# Altium schematic symbol library SmallJu_Lib.SchLib: 21 symbols
Pins are listed as number, name and electrical type; pins without a type are passive.

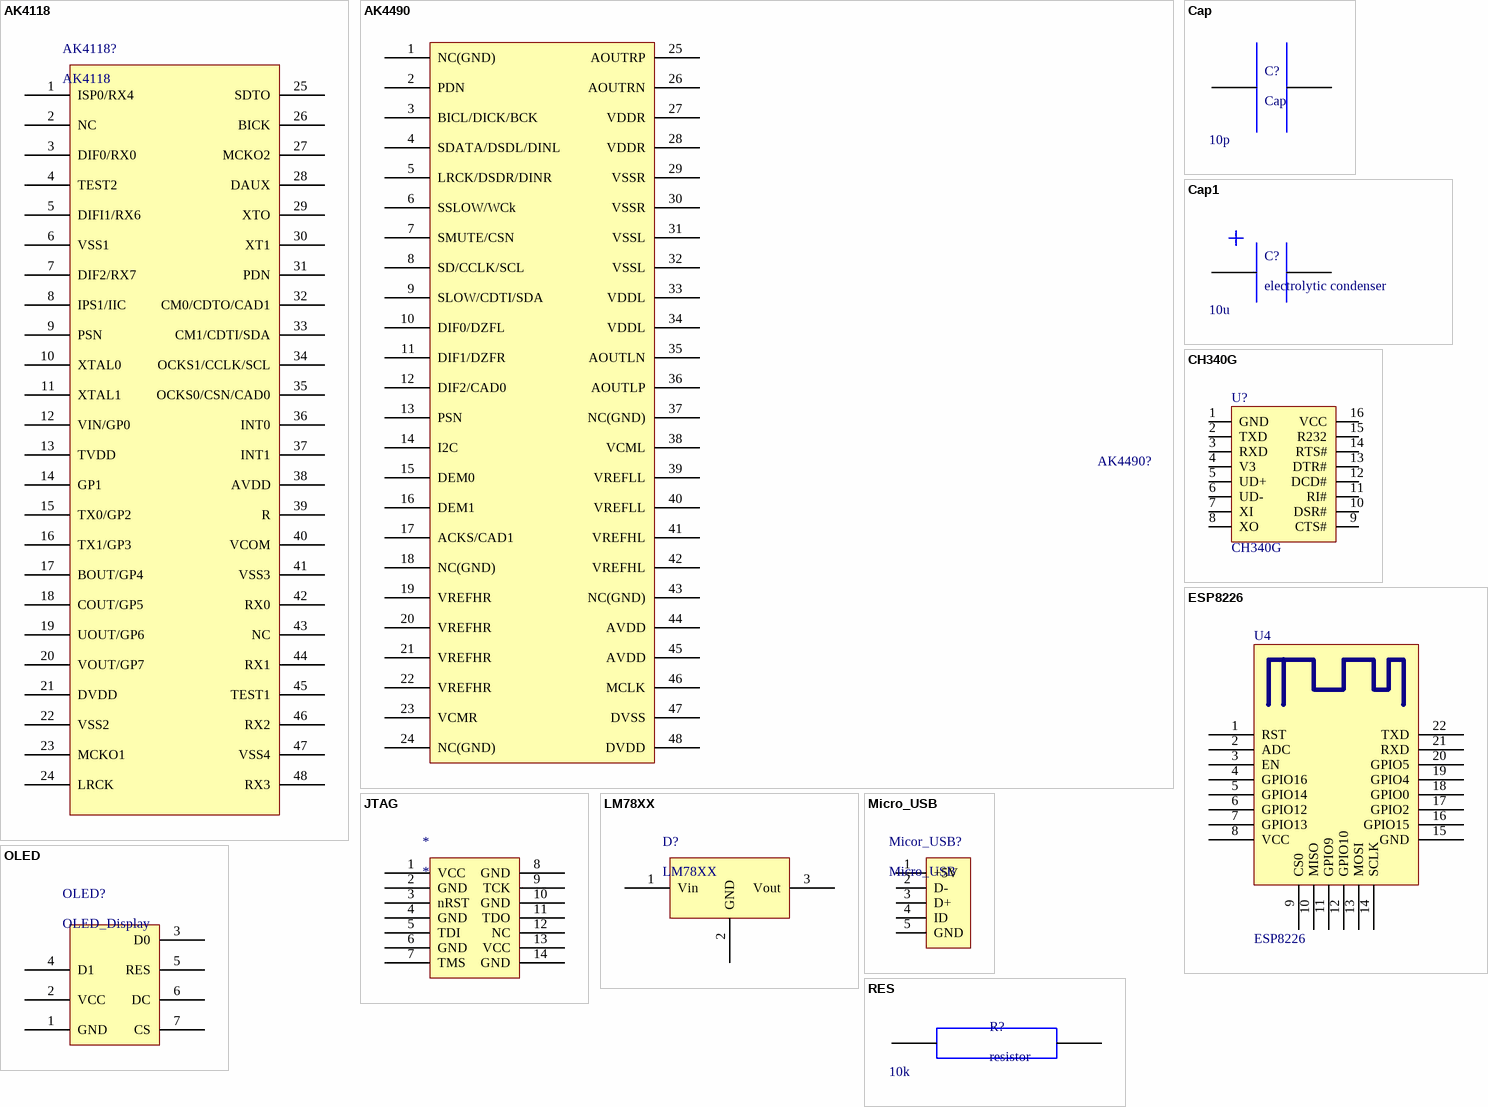
[diagram p0: symbols AK4118 to RES]

## AK4118
designator AK4118?
AK4118;High feature 192kHz 24bit Digital audio I/F Translater
footprint LQFP48
pins: 1 ISP0/RX4, 2 NC, 3 DIF0/RX0, 4 TEST2, 5 DIFI1/RX6, 6 VSS1, 7 DIF2/RX7, 8 IPS1/IIC, 9 PSN, 10 XTAL0, 11 XTAL1, 12 VIN/GP0, 13 TVDD, 14 GP1, 15 TX0/GP2, 16 TX1/GP3, 17 BOUT/GP4, 18 COUT/GP5, 19 UOUT/GP6, 20 VOUT/GP7, 21 DVDD, 22 VSS2, 23 MCKO1, 24 LRCK, 25 SDTO, 26 BICK, 27 MCKO2, 28 DAUX, 29 XTO, 30 XT1, 31 PDN, 32 CM0/CDTO/CAD1, 33 CM1/CDTI/SDA, 34 OCKS1/CCLK/SCL, 35 OCKS0/CSN/CAD0, 36 INT0, 37 INT1, 38 AVDD, 39 R, 40 VCOM, 41 VSS3, 42 RX0, 43 NC, 44 RX1, 45 TEST1, 46 RX2, 47 VSS4, 48 RX3

## AK4490
designator AK4490?  (value not drawn)
AK4490;Premium 32-bit 2ch DAC;
footprint LQFP48
pins: 1 NC(GND), 2 PDN, 3 BICL/DICK/BCK, 4 SDATA/DSDL/DINL, 5 LRCK/DSDR/DINR, 6 SSLOW/WCk, 7 SMUTE/CSN, 8 SD/CCLK/SCL, 9 SLOW/CDTI/SDA, 10 DIF0/DZFL, 11 DIF1/DZFR, 12 DIF2/CAD0, 13 PSN, 14 I2C, 15 DEM0, 16 DEM1, 17 ACKS/CAD1, 18 NC(GND), 19 VREFHR, 20 VREFHR, 21 VREFHR, 22 VREFHR, 23 VCMR, 24 NC(GND), 25 AOUTRP, 26 AOUTRN, 27 VDDR, 28 VDDR, 29 VSSR, 30 VSSR, 31 VSSL, 32 VSSL, 33 VDDL, 34 VDDL, 35 AOUTLN, 36 AOUTLP, 37 NC(GND), 38 VCML, 39 VREFLL, 40 VREFLL, 41 VREFHL, 42 VREFHL, 43 NC(GND), 44 AVDD, 45 AVDD, 46 MCLK, 47 DVSS, 48 DVDD

## Cap
designator C?  value 10p
footprint 0805_cap (0805;STM;cap;)
footprint DIP_CAP (DIP;Cap;Small;non_extremity)
pins: 2 DVDD, 49

## Cap1
designator C?, comment electrolytic condenser  value 10u
electrolytic condenser;
footprint E_CAP_LARGE (electrolytic condenser;10*12.5)
footprint E_CAP_SMALL (electrolytic condenser;8*12;(220uF))
footprint E_CAP_STM_LARGE (electrolytic condenser;STM;⊕8~10)
footprint E_CAP_STM_SMALL (electrolytic condenser;STM;⊕4~6.6)
pins: 1, 2
text: +

## CH340G
designator U?
CH340
footprint SOP-16
pins: 1 GND, 2 TXD, 3 RXD, 4 V3, 5 UD+, 6 UD-, 7 XI, 8 XO, 9 CTS#, 10 DSR#, 11 RI#, 12 DCD#, 13 DTR#, 14 RTS#, 15 R232, 16 VCC

## ESP8226
designator U4
footprint ESP8266 (WIFI)
pins: 1 RST, 2 ADC, 3 EN, 4 GPIO16, 5 GPIO14, 6 GPIO12, 7 GPIO13, 8 VCC, 9 CS0, 10 MISO, 11 GPIO9, 12 GPIO10, 13 MOSI, 14 SCLK, 15 GND, 16 GPIO15, 17 GPIO2, 18 GPIO0, 19 GPIO4, 20 GPIO5, 21 RXD, 22 TXD

## JTAG
designator *
pins: 1 VCC, 2 GND, 3 nRST, 4 GND, 5 TDI, 6 GND, 7 TMS, 8 GND, 9 TCK, 10 GND, 11 TDO, 12 NC, 13 VCC, 14 GND

## LM78XX
designator D?
LM78XX;
footprint TO-220 (LM78XX,LM79xx)
pins: 1 Vin, 2 GND, 3 Vout

## Micro_USB
designator Micor_USB?
Micro USB SType B with 5Pin
footprint Micro_USB_4_hole (Micro USB;Type B 4 Hole with extra guid hole)
footprint MICRO_USB_DIP (Micro USB;Type B;DIP;straight)
pins: 1 +5V, 2 D-, 3 D+, 4 ID, 5 GND

## OLED
designator OLED?, comment OLED_Display
oled display;contral by SPI from MCU;use 5 GPIO;0.96 inch;
footprint OLED
pins: 1 GND, 2 VCC, 3 D0, 4 D1, 5 RES, 6 DC, 7 CS

## RES
designator R?, comment resistor  resistamce: 10k
footprint RES_DIP (resistor;DIP)
footprint RES_SMT (resistor;STM;)
pins: 1, 2

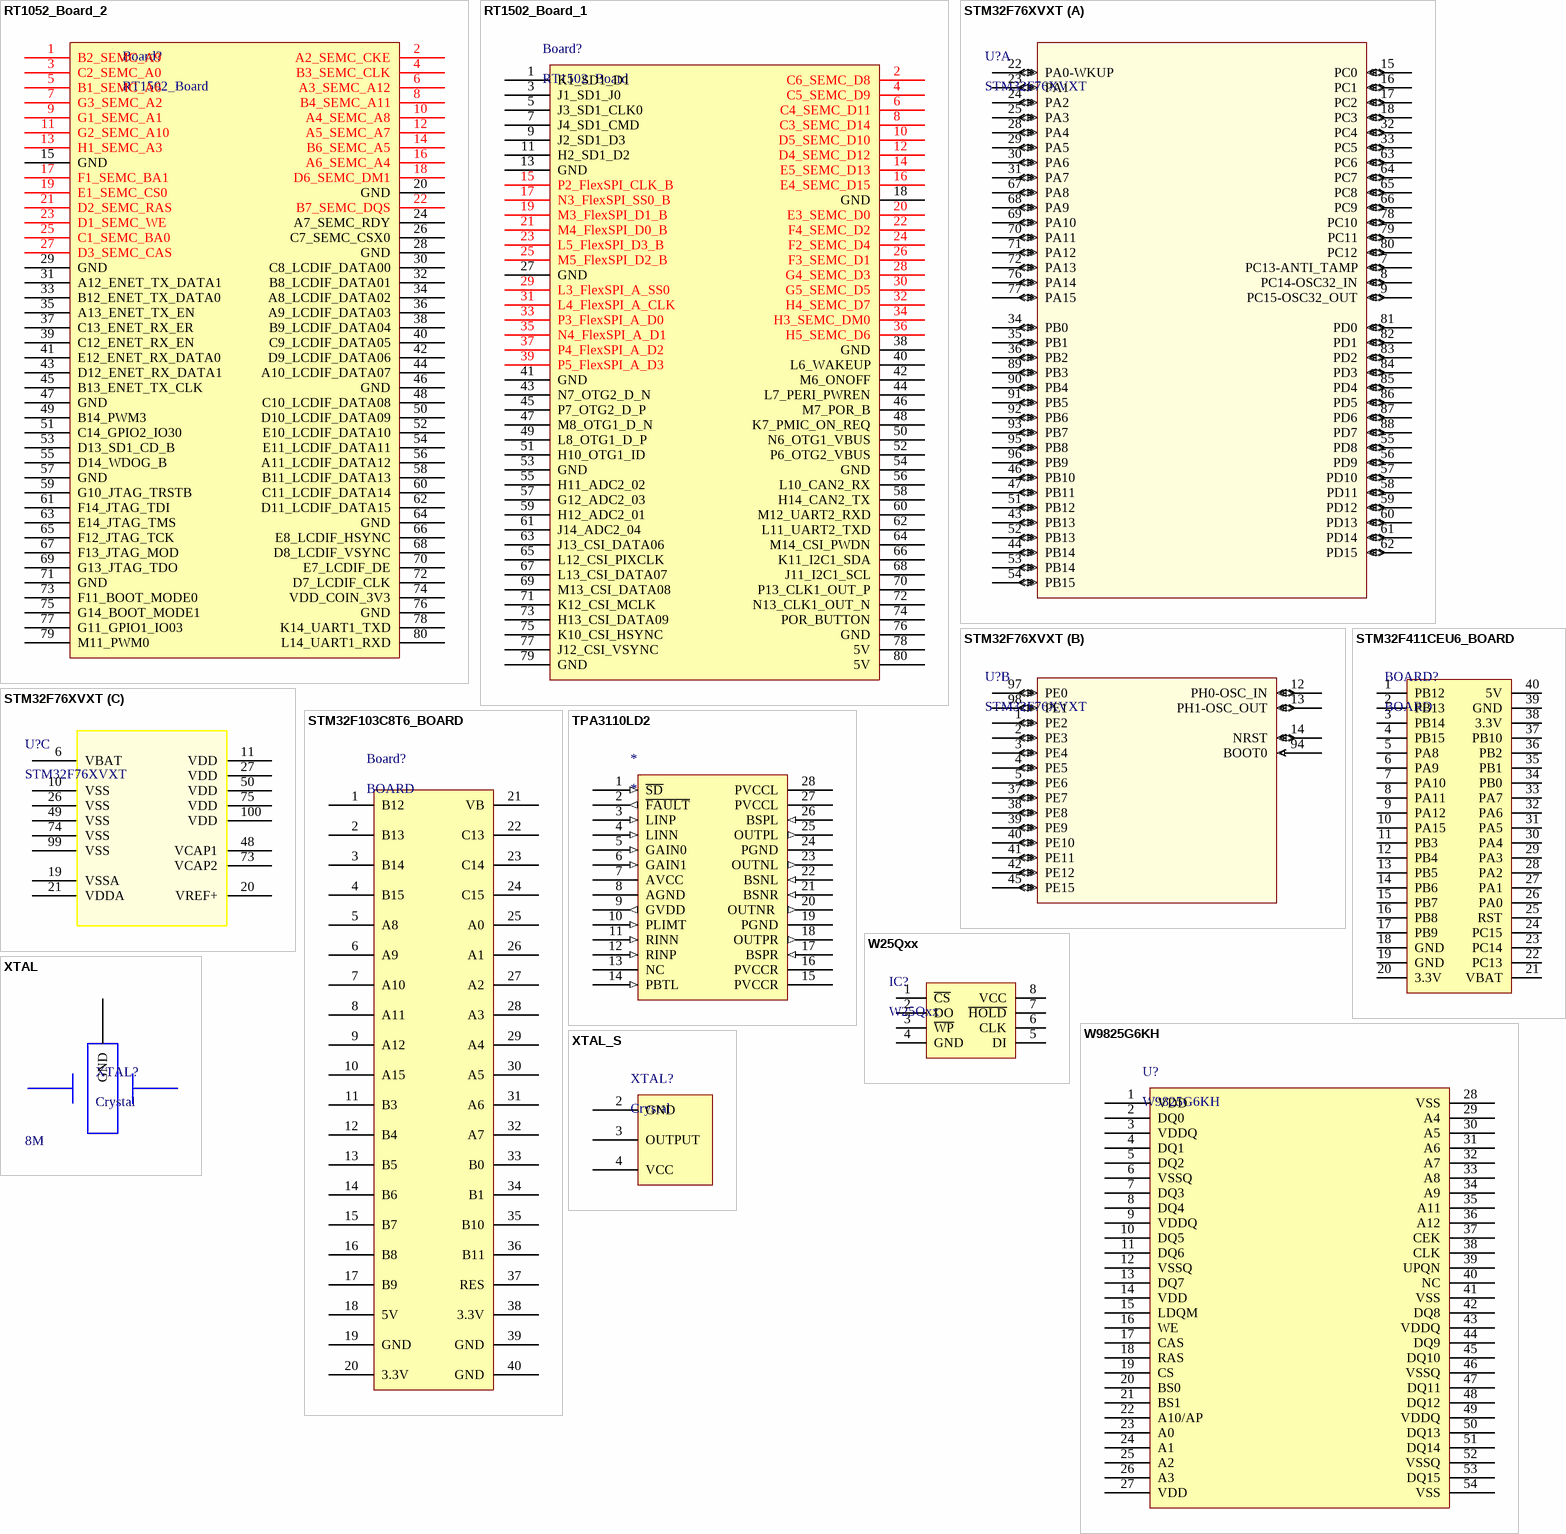
[diagram p1: symbols RT1052_Board_2 to XTAL_S]

## RT1052_Board_2
designator Board?, comment RT1502_Board
NXP i.MX RT1502 Board part 2
footprint CON80
pins: 1 B2_SEMC_A9, 2 A2_SEMC_CKE, 3 C2_SEMC_A0, 4 B3_SEMC_CLK, 5 B1_SEMC_A6, 6 A3_SEMC_A12, 7 G3_SEMC_A2, 8 B4_SEMC_A11, 9 G1_SEMC_A1, 10 A4_SEMC_A8, 11 G2_SEMC_A10, 12 A5_SEMC_A7, 13 H1_SEMC_A3, 14 B6_SEMC_A5, 15 GND, 16 A6_SEMC_A4, 17 F1_SEMC_BA1, 18 D6_SEMC_DM1, 19 E1_SEMC_CS0, 20 GND, 21 D2_SEMC_RAS, 22 B7_SEMC_DQS, 23 D1_SEMC_WE, 24 A7_SEMC_RDY, 25 C1_SEMC_BA0, 26 C7_SEMC_CSX0, 27 D3_SEMC_CAS, 28 GND, 29 GND, 30 C8_LCDIF_DATA00, 31 A12_ENET_TX_DATA1, 32 B8_LCDIF_DATA01, 33 B12_ENET_TX_DATA0, 34 A8_LCDIF_DATA02, 35 A13_ENET_TX_EN, 36 A9_LCDIF_DATA03, 37 C13_ENET_RX_ER, 38 B9_LCDIF_DATA04, 39 C12_ENET_RX_EN, 40 C9_LCDIF_DATA05, 41 E12_ENET_RX_DATA0, 42 D9_LCDIF_DATA06, 43 D12_ENET_RX_DATA1, 44 A10_LCDIF_DATA07, 45 B13_ENET_TX_CLK, 46 GND, 47 GND, 48 C10_LCDIF_DATA08, 49 B14_PWM3, 50 D10_LCDIF_DATA09, 51 C14_GPIO2_IO30, 52 E10_LCDIF_DATA10, 53 D13_SD1_CD_B, 54 E11_LCDIF_DATA11, 55 D14_WDOG_B, 56 A11_LCDIF_DATA12, 57 GND, 58 B11_LCDIF_DATA13, 59 G10_JTAG_TRSTB, 60 C11_LCDIF_DATA14, 61 F14_JTAG_TDI, 62 D11_LCDIF_DATA15, 63 E14_JTAG_TMS, 64 GND, 65 F12_JTAG_TCK, 66 E8_LCDIF_HSYNC, 67 F13_JTAG_MOD, 68 D8_LCDIF_VSYNC, 69 G13_JTAG_TDO, 70 E7_LCDIF_DE, 71 GND, 72 D7_LCDIF_CLK, 73 F11_BOOT_MODE0, 74 VDD_COIN_3V3, 75 G14_BOOT_MODE1, 76 GND, 77 G11_GPIO1_IO03, 78 K14_UART1_TXD, 79 M11_PWM0, 80 L14_UART1_RXD

## RT1502_Board_1
designator Board?, comment RT1502_Board
NXP i.MX RT1502 Board part 1
footprint CON80
pins: 1 K1_SD1_D1, 2 C6_SEMC_D8, 3 J1_SD1_J0, 4 C5_SEMC_D9, 5 J3_SD1_CLK0, 6 C4_SEMC_D11, 7 J4_SD1_CMD, 8 C3_SEMC_D14, 9 J2_SD1_D3, 10 D5_SEMC_D10, 11 H2_SD1_D2, 12 D4_SEMC_D12, 13 GND, 14 E5_SEMC_D13, 15 P2_FlexSPI_CLK_B, 16 E4_SEMC_D15, 17 N3_FlexSPI_SS0_B, 18 GND, 19 M3_FlexSPI_D1_B, 20 E3_SEMC_D0, 21 M4_FlexSPI_D0_B, 22 F4_SEMC_D2, 23 L5_FlexSPI_D3_B, 24 F2_SEMC_D4, 25 M5_FlexSPI_D2_B, 26 F3_SEMC_D1, 27 GND, 28 G4_SEMC_D3, 29 L3_FlexSPI_A_SS0, 30 G5_SEMC_D5, 31 L4_FlexSPI_A_CLK, 32 H4_SEMC_D7, 33 P3_FlexSPI_A_D0, 34 H3_SEMC_DM0, 35 N4_FlexSPI_A_D1, 36 H5_SEMC_D6, 37 P4_FlexSPI_A_D2, 38 GND, 39 P5_FlexSPI_A_D3, 40 L6_WAKEUP, 41 GND, 42 M6_ONOFF, 43 N7_OTG2_D_N, 44 L7_PERI_PWREN, 45 P7_OTG2_D_P, 46 M7_POR_B, 47 M8_OTG1_D_N, 48 K7_PMIC_ON_REQ, 49 L8_OTG1_D_P, 50 N6_OTG1_VBUS, 51 H10_OTG1_ID, 52 P6_OTG2_VBUS, 53 GND, 54 GND, 55 H11_ADC2_02, 56 L10_CAN2_RX, 57 G12_ADC2_03, 58 H14_CAN2_TX, 59 H12_ADC2_01, 60 M12_UART2_RXD, 61 J14_ADC2_04, 62 L11_UART2_TXD, 63 J13_CSI_DATA06, 64 M14_CSI_PWDN, 65 L12_CSI_PIXCLK , 66 K11_I2C1_SDA, 67 L13_CSI_DATA07, 68 J11_I2C1_SCL, 69 M13_CSI_DATA08, 70 P13_CLK1_OUT_P, 71 K12_CSI_MCLK, 72 N13_CLK1_OUT_N, 73 H13_CSI_DATA09, 74 POR_BUTTON, 75 K10_CSI_HSYNC, 76 GND, 77 J12_CSI_VSYNC, 78 5V, 79 GND, 80 5V

## STM32F76XVXT
designator U?
STM32f767XGXT; Vendor: STMicroelectronics; C: Copyright (C) 2016 Accelerated Designs. All rights reserved; Manufacturer_Part_Number: stm32f76xvxt; Copyright: Copyright (C) 2016 Accelerated Designs. All rights reserved; RefDes: RefDes; Type: Type; Value: Value
footprint LQFP-100_14X14mm
part A pins: 7 PC13-ANTI_TAMP (io), 8 PC14-OSC32_IN (io), 9 PC15-OSC32_OUT (io), 15 PC0 (io), 16 PC1 (io), 17 PC2 (io), 18 PC3 (io), 22 PA0-WKUP (io), 23 PA1 (io), 24 PA2 (io), 25 PA3 (io), 28 PA4 (io), 29 PA5 (io), 30 PA6 (io), 31 PA7 (io), 32 PC4 (io), 33 PC5 (io), 34 PB0 (io), 35 PB1 (io), 36 PB2 (io), 43 PB13 (io), 44 PB14 (io), 46 PB10 (io), 47 PB11 (io), 51 PB12 (io), 52 PB13 (io), 53 PB14 (io), 54 PB15 (io), 55 PD8 (io), 56 PD9 (io), 57 PD10 (io), 58 PD11 (io), 59 PD12 (io), 60 PD13 (io), 61 PD14 (io), 62 PD15 (io), 63 PC6 (io), 64 PC7 (io), 65 PC8 (io), 66 PC9 (io), 67 PA8 (io), 68 PA9 (io), 69 PA10 (io), 70 PA11 (io), 71 PA12 (io), 72 PA13 (io), 76 PA14 (io), 77 PA15 (io), 78 PC10 (io), 79 PC11 (io), 80 PC12 (io), 81 PD0 (io), 82 PD1 (io), 83 PD2 (io), 84 PD3 (io), 85 PD4 (io), 86 PD5 (io), 87 PD6 (io), 88 PD7 (io), 89 PB3 (io), 90 PB4 (io), 91 PB5 (io), 92 PB6 (io), 93 PB7 (io), 95 PB8 (io), 96 PB9 (io)
part B pins: 1 PE2 (io), 2 PE3 (io), 3 PE4 (io), 4 PE5 (io), 5 PE6 (io), 12 PH0-OSC_IN (io), 13 PH1-OSC_OUT (io), 14 NRST (io), 37 PE7 (io), 38 PE8 (io), 39 PE9 (io), 40 PE10 (io), 41 PE11 (io), 42 PE12 (io), 45 PE15 (io), 94 BOOT0 (in), 97 PE0 (io), 98 PE1 (io)
part C pins: 6 VBAT (power), 10 VSS (power), 11 VDD (power), 19 VSSA (power), 20 VREF+ (power), 21 VDDA (power), 26 VSS (power), 27 VDD (power), 48 VCAP1 (power), 49 VSS (power), 50 VDD (power), 73 VCAP2 (power), 74 VSS (power), 75 VDD (power), 99 VSS (power), 100 VDD (power)

## STM32F103C8T6_BOARD
designator Board?, comment BOARD
footprint DIP40
pins: 1 B12, 2 B13, 3 B14, 4 B15, 5 A8, 6 A9, 7 A10, 8 A11, 9 A12, 10 A15, 11 B3, 12 B4, 13 B5, 14 B6, 15 B7, 16 B8, 17 B9, 18 5V, 19 GND, 20 3.3V, 21 VB, 22 C13, 23 C14, 24 C15, 25 A0, 26 A1, 27 A2, 28 A3, 29 A4, 30 A5, 31 A6, 32 A7, 33 B0, 34 B1, 35 B10, 36 B11, 37 RES, 38 3.3V, 39 GND, 40 GND

## STM32F411CEU6_BOARD
designator BOARD?, comment BOARD
footprint DIP40
pins: 1 PB12, 2 PB13, 3 PB14, 4 PB15, 5 PA8, 6 PA9, 7 PA10, 8 PA11, 9 PA12, 10 PA15, 11 PB3, 12 PB4, 13 PB5, 14 PB6, 15 PB7, 16 PB8, 17 PB9, 18 GND, 19 GND, 20 3.3V, 21 VBAT, 22 PC13, 23 PC14, 24 PC15, 25 RST, 26 PA0, 27 PA1, 28 PA2, 29 PA3, 30 PA4, 31 PA5, 32 PA6, 33 PA7, 34 PB0, 35 PB1, 36 PB2, 37 PB10, 38 3.3V, 39 GND, 40 5V

## TPA3110LD2
designator *
footprint SOP28
pins: 1 ~{SD} (in), 2 ~{FAULT} (out), 3 LINP (in), 4 LINN (in), 5 GAIN0 (in), 6 GAIN1 (in), 7 AVCC (power), 8 AGND (power), 9 GVDD (out), 10 PLIMT (in), 11 RINN (in), 12 RINP (in), 13 NC (power), 14 PBTL (in), 15 PVCCR (power), 16 PVCCR (power), 17 BSPR (in), 18 OUTPR (out), 19 PGND (power), 20 OUTNR  (out), 21 BSNR (in), 22 BSNL (in), 23 OUTNL (out), 24 PGND (power), 25 OUTPL (out), 26 BSPL (in), 27 PVCCL (power), 28 PVCCL (power)

## W25Qxx
designator IC?
外置Flash; 版权归属: 源创客; BOM名称: 外置Flash; 学习资源: www.ooocke.com
footprint SOP8W_N (5.3*8.3*1.8mm（长宽高）)
footprint SOP8W_L (5.3*8.3*1.8mm（长宽高）)
footprint SOP8W_M (5.3*8.3*1.8mm（长宽高）)
pins: 1 ~{CS}, 2 DO, 3 ~{WP}, 4 GND, 5 DI, 6 CLK, 7 ~{HOLD}, 8 VCC

## W9825G6KH
designator U?
footprint TSOP54
pins: 1 VDD, 2 DQ0, 3 VDDQ, 4 DQ1, 5 DQ2, 6 VSSQ, 7 DQ3, 8 DQ4, 9 VDDQ, 10 DQ5, 11 DQ6, 12 VSSQ, 13 DQ7, 14 VDD, 15 LDQM, 16 WE (power), 17 CAS (power), 18 RAS (power), 19 CS (power), 20 BS0 (power), 21 BS1 (power), 22 A10/AP (power), 23 A0 (power), 24 A1 (power), 25 A2 (power), 26 A3 (power), 27 VDD (power), 28 VSS (power), 29 A4 (power), 30 A5 (power), 31 A6 (power), 32 A7 (power), 33 A8 (power), 34 A9 (power), 35 A11 (power), 36 A12 (power), 37 CEK (power), 38 CLK (power), 39 UPQN (power), 40 NC (power), 41 VSS (power), 42 DQ8 (power), 43 VDDQ (power), 44 DQ9 (power), 45 DQ10 (power), 46 VSSQ (power), 47 DQ11 (power), 48 DQ12 (power), 49 VDDQ (power), 50 DQ13 (power), 51 DQ14 (power), 52 VSSQ (power), 53 DQ15 (power), 54 VSS (power)

## XTAL
designator XTAL?, comment Crystal  Frequence: 8M
Crystal without source
footprint XTAL_DIP (Passive Crystal;DIP;)
footprint XTAL_STM (crystal;SMT;)
pins: 1, 2, 3 GND

## XTAL_S
designator XTAL?, comment Crystal
footprint XTAL_STM (crystal;SMT;)
footprint XTAL_S_DIP (ceystal whi source;DIP)
pins: 2 GND, 3 OUTPUT, 4 VCC